# Altium footprint library ZTS6117.PcbLib: 1 footprints
Each footprint in its own frame and in the unit in brackets; x right, y up, seen from the top. Pads: shape width x height; smd on the part's side, far side on the other; paste and mask are expansions set on the pad; w line width, h text height; cw(c..) or ccw(c..) is an arc to the next point about the centre after c.
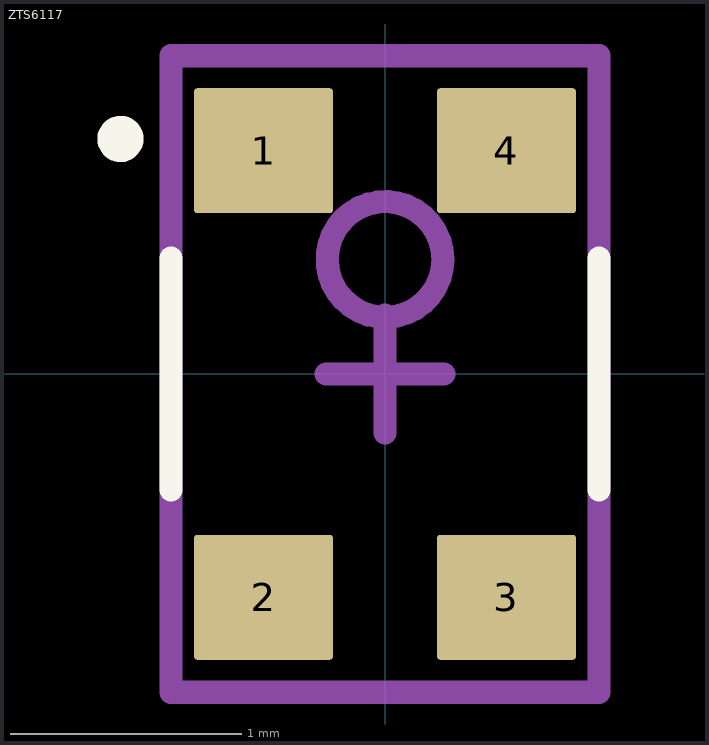
[diagram p0: the footprint, top view; thin cyan lines are the x and y axes]

## ZTS6117 [mm]
pads (4):
  rrect5% 0.6x0.54 smd: 1(-0.525,0.965) 2(-0.525,-0.965) 3(0.525,-0.965) 4(0.525,0.965)
Top Overlay:
  circle w0.1: c-1.143,1.016 r0.05
  lines w0.1: -0.925,-0.5 -0.925,0.5 ; 0.925,-0.5 0.925,0.5
Top 3D Body:
  circle w0.1: c0,0.495 r0.25
  lines w0.1: -0.925,-1.375 0.925,-1.375 0.925,1.375 -0.925,1.375 -0.925,-1.375
Top Courtyard:
  lines w0.1: -0.925,-1.375 -0.925,1.375 0.925,1.375 0.925,-1.375 -0.925,-1.375
Top Component Center:
  lines w0.1: -0.254,0 0.254,0 ; 0,-0.254 0,0.254